# Altium schematic symbol library B6B-XH-TW .SchLib: 1 symbol
Pins are listed as number, name and electrical type; pins without a type are passive.

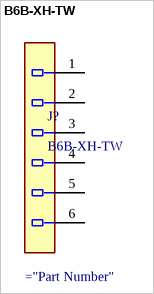
[diagram p0: symbol B6B-XH-TW]

## B6B-XH-TW
designator J?
footprint B6B-XH-TW
pins: 1, 2, 3, 4, 5, 6